# Altium schematic symbol library DMP6023LE-13.SchLib: 1 symbol
Pins are listed as number, name and electrical type; pins without a type are passive.

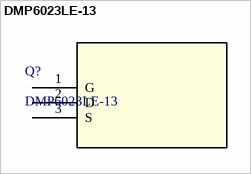
[diagram p0: symbol DMP6023LE-13]

## DMP6023LE-13
designator Q?
Description; Manufacturer_Name: Diodes Inc; Copyright: Copyright (C) 2026 Ultra Librarian. All rights reserved.; Manufacturer_Part_Number: DMP6023LE-13; RefDes: RefDes; Type: Type
footprint DMP6023LE-13_DIO
pins: 1 G, 2 D, 3 S